# Altium footprint library MAX395.PcbLib: 3 footprints
Each footprint in its own frame and in the unit in brackets; x right, y up, seen from the top. Pads: shape width x height; smd on the part's side, far side on the other; paste and mask are expansions set on the pad; w line width, h text height; cw(c..) or ccw(c..) is an arc to the next point about the centre after c.
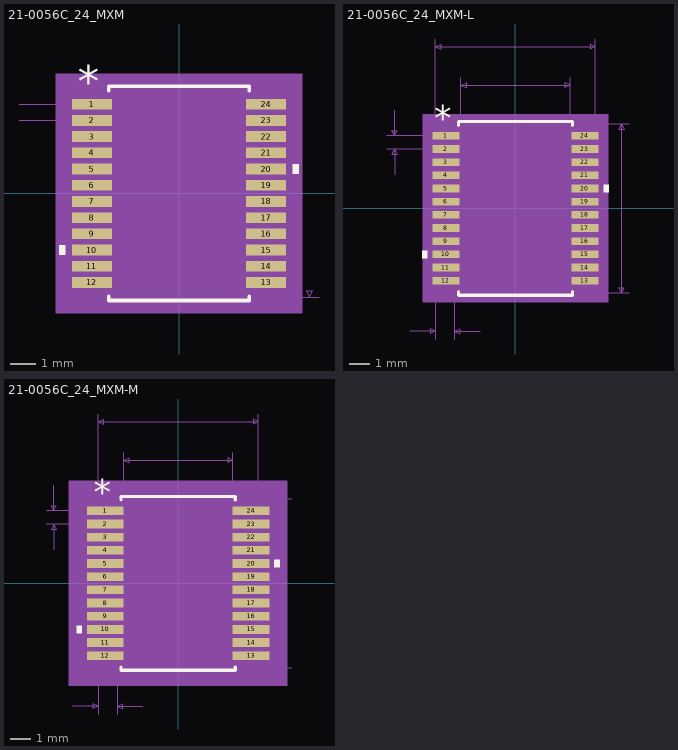
[diagram p0: the footprints below, top view; thin cyan lines are the x and y axes]

## 21-0056C_24_MXM [mm]
pads (24):
  rect 1.607x0.431 smd paste+0 mask+0: 1(-3.496,3.575) 2(-3.496,2.925) 3(-3.496,2.275) 4(-3.496,1.625) 5(-3.496,0.975) 6(-3.496,0.325) 7(-3.496,-0.325) 8(-3.496,-0.975) 9(-3.496,-1.625) 10(-3.496,-2.275) 11(-3.496,-2.925) 12(-3.496,-3.575) 13(3.496,-3.575) 14(3.496,-2.925) 15(3.496,-2.275) 16(3.496,-1.625) 17(3.496,-0.975) 18(3.496,-0.325) 19(3.496,0.325) 20(3.496,0.975) 21(3.496,1.625) 22(3.496,2.275) 23(3.496,2.925) 24(3.496,3.575)
Top Overlay:
  region: 4.554,1.165 4.808,1.165 4.808,0.784 4.554,0.784
  region: -4.554,-2.084 -4.808,-2.084 -4.808,-2.465 -4.554,-2.465
  lines w0.152: -2.819,-4.123 -2.819,-4.293 2.819,-4.293 2.819,-4.123 ; -2.819,4.123 -2.819,4.293 2.819,4.293 2.819,4.123
  text "*" at -4.068,3.879 h1.27
Mechanical 5:
  region: 4.935,-4.801 -4.935,-4.801 -4.935,4.801 4.935,4.801
Mechanical 7:
  lines w0.025: -6.417,2.925 -3.496,2.925 ; -6.417,3.575 -3.496,3.575 ; 0,-4.166 5.613,-4.166 ; 5.105,-3.912 5.359,-3.912 5.232,-4.166 5.105,-3.912
Mechanical 13:
  lines w0: -0.305,4.166 ccw(c0,4.166) 0.305,4.166
  lines w0.025: -3.95,-3.765 -2.692,-3.765 -2.692,-3.384 -3.95,-3.384 -3.95,-3.765 ; -3.95,-3.115 -2.692,-3.115 -2.692,-2.734 -3.95,-2.734 -3.95,-3.115 ; -3.95,-2.465 -2.692,-2.465 -2.692,-2.084 -3.95,-2.084 -3.95,-2.465 ; -3.95,-1.815 -2.692,-1.815 -2.692,-1.434 -3.95,-1.434 -3.95,-1.815 ; -3.95,-1.165 -2.692,-1.165 -2.692,-0.784 -3.95,-0.784 -3.95,-1.165 ; -3.95,-0.515 -2.692,-0.515 -2.692,-0.134 -3.95,-0.134 -3.95,-0.515 ; -3.95,0.135 -2.692,0.135 -2.692,0.516 -3.95,0.516 -3.95,0.135 ; -3.95,0.785 -2.692,0.785 -2.692,1.166 -3.95,1.166 -3.95,0.785 ; -3.95,1.435 -2.692,1.435 -2.692,1.816 -3.95,1.816 -3.95,1.435 ; -3.95,2.085 -2.692,2.085 -2.692,2.466 -3.95,2.466 -3.95,2.085 ; -3.95,2.735 -2.692,2.735 -2.692,3.116 -3.95,3.116 -3.95,2.735 ; -3.95,3.384 -2.692,3.384 -2.692,3.765 -3.95,3.765 -3.95,3.384 ; -2.692,-4.166 -2.692,4.166 2.692,4.166 2.692,-4.166 -2.692,-4.166 ; 2.692,-3.765 3.95,-3.765 3.95,-3.384 2.692,-3.384 2.692,-3.765 ; 2.692,-3.116 3.95,-3.116 3.95,-2.735 2.692,-2.735 2.692,-3.116 ; 2.692,-2.465 3.95,-2.465 3.95,-2.084 2.692,-2.084 2.692,-2.465 ; 2.692,-1.816 3.95,-1.816 3.95,-1.435 2.692,-1.435 2.692,-1.816 ; 2.692,-1.165 3.95,-1.165 3.95,-0.784 2.692,-0.784 2.692,-1.165 ; 2.692,-0.516 3.95,-0.516 3.95,-0.135 2.692,-0.135 2.692,-0.516 ; 2.692,0.134 3.95,0.134 3.95,0.515 2.692,0.515 2.692,0.134 ; 2.692,0.784 3.95,0.784 3.95,1.165 2.692,1.165 2.692,0.784 ; 2.692,1.434 3.95,1.434 3.95,1.815 2.692,1.815 2.692,1.434 ; 2.692,2.084 3.95,2.084 3.95,2.465 2.692,2.465 2.692,2.084 ; 2.692,2.734 3.95,2.734 3.95,3.115 2.692,3.115 2.692,2.734 ; 2.692,3.384 3.95,3.384 3.95,3.765 2.692,3.765 2.692,3.384
  text "*" at -2.629,2.819 h1.27
Mechanical 15:
  region: -2.946,-4.045 -4.554,-4.045 -4.554,4.045 -2.946,4.045 -2.946,4.42 2.946,4.42 2.946,4.045 4.554,4.045 4.554,-4.045 2.946,-4.045 2.946,-4.42 -2.946,-4.42
  lines w0.152: -4.554,-4.045 -2.946,-4.045 -2.946,-4.42 2.946,-4.42 2.946,-4.045 4.554,-4.045 4.554,4.045 2.946,4.045 2.946,4.42 -2.946,4.42 -2.946,4.045 -4.554,4.045 -4.554,-4.045
3D body: height 0.25, standoff 0, extent 0,0 0.254,0.254

## 21-0056C_24_MXM-L [mm]
pads (24):
  rect 1.34x0.381 smd paste+0 mask+0: 1(-3.43,3.575) 2(-3.43,2.925) 3(-3.43,2.275) 4(-3.43,1.625) 5(-3.43,0.975) 6(-3.43,0.325) 7(-3.43,-0.325) 8(-3.43,-0.975) 9(-3.43,-1.625) 10(-3.43,-2.275) 11(-3.43,-2.925) 12(-3.43,-3.575) 13(3.43,-3.575) 14(3.43,-2.925) 15(3.43,-2.275) 16(3.43,-1.625) 17(3.43,-0.975) 18(3.43,-0.325) 19(3.43,0.325) 20(3.43,0.975) 21(3.43,1.625) 22(3.43,2.275) 23(3.43,2.925) 24(3.43,3.575)
Top Overlay:
  region: -4.354,-2.084 -4.608,-2.084 -4.608,-2.465 -4.354,-2.465
  region: 4.354,1.165 4.608,1.165 4.608,0.784 4.354,0.784
  lines w0.152: -2.819,-4.098 -2.819,-4.293 2.819,-4.293 2.819,-4.098 ; -2.819,4.098 -2.819,4.293 2.819,4.293 2.819,4.098
  text "*" at -4.001,3.829 h1.27
Mechanical 5:
  region: 4.582,-4.648 -4.582,-4.648 -4.582,4.648 4.582,4.648
Mechanical 7:
  lines w0.025: -6.351,2.925 -3.43,2.925 ; -6.351,3.575 -3.43,3.575 ; -5.97,1.655 -5.97,2.925 ; -5.97,4.845 -5.97,3.575 ; -5.22,-6.071 -3.95,-6.071 ; -3.95,-6.452 -3.95,0 -3.95,8.357 ; -3.01,-6.452 -3.01,0 ; -2.692,0 -2.692,6.452 ; -1.74,-6.071 -3.01,-6.071 ; 0,-4.166 5.613,-4.166 ; 0,4.166 5.613,4.166 ; 2.692,0 2.692,6.452 ; 3.95,0 3.95,8.357 ; -5.97,2.925 -6.097,2.671 -5.843,2.671 -5.97,2.925 ; -5.97,3.575 -6.097,3.829 -5.843,3.829 -5.97,3.575 ; -3.95,-6.071 -4.204,-5.944 -4.204,-6.198 -3.95,-6.071 ; -3.95,7.976 3.95,7.976 ; -3.95,7.976 -3.696,8.103 -3.696,7.849 -3.95,7.976 ; -3.01,-6.071 -2.756,-5.944 -2.756,-6.198 -3.01,-6.071 ; -2.692,6.071 2.692,6.071 ; -2.692,6.071 -2.438,6.198 -2.438,5.944 -2.692,6.071 ; 2.692,6.071 2.438,6.198 2.438,5.944 2.692,6.071 ; 3.95,7.976 3.696,8.103 3.696,7.849 3.95,7.976 ; 5.232,-4.166 5.232,4.166 ; 5.232,-4.166 5.105,-3.912 5.359,-3.912 5.232,-4.166 ; 5.232,4.166 5.105,3.912 5.359,3.912 5.232,4.166
  text "Default Padstyle: r134_38" at -7.938,-9.246 h1.27
  text "Pin One Padstyle: r134_38" at -7.938,-10.77 h1.27
  text "Alt 1 Padstyle: b152_229h76" at -8.572,-15.342 h1.27
  text "Alt 2 Padstyle: b229_152h76" at -8.572,-16.866 h1.27
  text "0.212in/5.385mm" at -2.381,6.579 h0.64
  text "0.311in/7.899mm" at -2.381,8.484 h0.64
  text "0.328in/8.331mm" at 5.74,-0.318 h0.64
  text "0.026in/0.65mm" at -10.923,2.933 h0.64
  text "0.037in/0.94mm" at -5.702,-7.214 h0.64
Mechanical 13:
  lines w0: -0.305,4.166 ccw(c0,4.166) 0.305,4.166
  lines w0.025: -3.95,-3.765 -3.95,-3.384 -2.692,-3.384 -2.692,-3.765 -3.95,-3.765 ; -3.95,-3.115 -3.95,-2.734 -2.692,-2.734 -2.692,-3.115 -3.95,-3.115 ; -3.95,-2.465 -3.95,-2.084 -2.692,-2.084 -2.692,-2.465 -3.95,-2.465 ; -3.95,-1.815 -3.95,-1.434 -2.692,-1.434 -2.692,-1.815 -3.95,-1.815 ; -3.95,-1.165 -3.95,-0.784 -2.692,-0.784 -2.692,-1.165 -3.95,-1.165 ; -3.95,-0.515 -3.95,-0.134 -2.692,-0.134 -2.692,-0.515 -3.95,-0.515 ; -3.95,0.135 -3.95,0.516 -2.692,0.516 -2.692,0.135 -3.95,0.135 ; -3.95,0.785 -3.95,1.166 -2.692,1.166 -2.692,0.785 -3.95,0.785 ; -3.95,1.435 -3.95,1.816 -2.692,1.816 -2.692,1.435 -3.95,1.435 ; -3.95,2.085 -3.95,2.466 -2.692,2.466 -2.692,2.085 -3.95,2.085 ; -3.95,2.735 -3.95,3.116 -2.692,3.116 -2.692,2.735 -3.95,2.735 ; -3.95,3.384 -3.95,3.765 -2.692,3.765 -2.692,3.384 -3.95,3.384 ; -2.692,-4.166 2.692,-4.166 2.692,4.166 -2.692,4.166 -2.692,-4.166 ; 2.692,-3.765 2.692,-3.384 3.95,-3.384 3.95,-3.765 2.692,-3.765 ; 2.692,-3.116 2.692,-2.735 3.95,-2.735 3.95,-3.116 2.692,-3.116 ; 2.692,-2.465 2.692,-2.084 3.95,-2.084 3.95,-2.465 2.692,-2.465 ; 2.692,-1.816 2.692,-1.435 3.95,-1.435 3.95,-1.816 2.692,-1.816 ; 2.692,-1.165 2.692,-0.784 3.95,-0.784 3.95,-1.165 2.692,-1.165 ; 2.692,-0.516 2.692,-0.135 3.95,-0.135 3.95,-0.516 2.692,-0.516 ; 2.692,0.134 2.692,0.515 3.95,0.515 3.95,0.134 2.692,0.134 ; 2.692,0.784 2.692,1.165 3.95,1.165 3.95,0.784 2.692,0.784 ; 2.692,1.434 2.692,1.815 3.95,1.815 3.95,1.434 2.692,1.434 ; 2.692,2.084 2.692,2.465 3.95,2.465 3.95,2.084 2.692,2.084 ; 2.692,2.734 2.692,3.115 3.95,3.115 3.95,2.734 2.692,2.734 ; 2.692,3.384 2.692,3.765 3.95,3.765 3.95,3.384 2.692,3.384
  text "*" at -2.629,2.819 h1.27
Mechanical 15:
  region: -2.794,-3.867 -4.201,-3.867 -4.201,3.867 -2.794,3.867 -2.794,4.267 2.794,4.267 2.794,3.867 4.201,3.867 4.201,-3.867 2.794,-3.867 2.794,-4.267 -2.794,-4.267
  lines w0.152: -4.201,-3.867 -4.201,3.867 -2.794,3.867 -2.794,4.267 2.794,4.267 2.794,3.867 4.201,3.867 4.201,-3.867 2.794,-3.867 2.794,-4.267 -2.794,-4.267 -2.794,-3.867 -4.201,-3.867
3D body: height 0.25, standoff 0, extent 0,0 0.254,0.254

## 21-0056C_24_MXM-M [mm]
pads (24):
  rect 1.807x0.431 smd paste+0 mask+0: 1(-3.596,3.575) 2(-3.596,2.925) 3(-3.596,2.275) 4(-3.596,1.625) 5(-3.596,0.975) 6(-3.596,0.325) 7(-3.596,-0.325) 8(-3.596,-0.975) 9(-3.596,-1.625) 10(-3.596,-2.275) 11(-3.596,-2.925) 12(-3.596,-3.575) 13(3.596,-3.575) 14(3.596,-2.925) 15(3.596,-2.275) 16(3.596,-1.625) 17(3.596,-0.975) 18(3.596,-0.325) 19(3.596,0.325) 20(3.596,0.975) 21(3.596,1.625) 22(3.596,2.275) 23(3.596,2.925) 24(3.596,3.575)
Top Overlay:
  region: -4.754,-2.084 -5.008,-2.084 -5.008,-2.465 -4.754,-2.465
  region: 4.754,1.165 5.008,1.165 5.008,0.784 4.754,0.784
  lines w0.152: -2.819,-4.123 -2.819,-4.293 2.819,-4.293 2.819,-4.123 ; -2.819,4.123 -2.819,4.293 2.819,4.293 2.819,4.123
  text "*" at -4.168,3.879 h1.27
Mechanical 5:
  region: 5.389,-5.055 -5.389,-5.055 -5.389,5.055 5.389,5.055
Mechanical 7:
  lines w0.025: -6.517,2.925 -3.596,2.925 ; -6.517,3.575 -3.596,3.575 ; -6.136,1.655 -6.136,2.925 ; -6.136,4.845 -6.136,3.575 ; -5.22,-6.071 -3.95,-6.071 ; -3.95,-6.452 -3.95,0 -3.95,8.357 ; -3.01,-6.452 -3.01,0 ; -2.692,0 -2.692,6.452 ; -1.74,-6.071 -3.01,-6.071 ; 0,-4.166 5.613,-4.166 ; 0,4.166 5.613,4.166 ; 2.692,0 2.692,6.452 ; 3.95,0 3.95,8.357 ; -6.136,2.925 -6.263,2.671 -6.009,2.671 -6.136,2.925 ; -6.136,3.575 -6.263,3.829 -6.009,3.829 -6.136,3.575 ; -3.95,-6.071 -4.204,-5.944 -4.204,-6.198 -3.95,-6.071 ; -3.95,7.976 3.95,7.976 ; -3.95,7.976 -3.696,8.103 -3.696,7.849 -3.95,7.976 ; -3.01,-6.071 -2.756,-5.944 -2.756,-6.198 -3.01,-6.071 ; -2.692,6.071 2.692,6.071 ; -2.692,6.071 -2.438,6.198 -2.438,5.944 -2.692,6.071 ; 2.692,6.071 2.438,6.198 2.438,5.944 2.692,6.071 ; 3.95,7.976 3.696,8.103 3.696,7.849 3.95,7.976 ; 5.232,-4.166 5.232,4.166 ; 5.232,-4.166 5.105,-3.912 5.359,-3.912 5.232,-4.166 ; 5.232,4.166 5.105,3.912 5.359,3.912 5.232,4.166
  text "Default Padstyle: r181_43" at -7.938,-9.246 h1.27
  text "Pin One Padstyle: r181_43" at -7.938,-10.77 h1.27
  text "Alt 1 Padstyle: b152_229h76" at -8.572,-15.342 h1.27
  text "Alt 2 Padstyle: b229_152h76" at -8.572,-16.866 h1.27
  text "0.212in/5.385mm" at -2.381,6.579 h0.64
  text "0.311in/7.899mm" at -2.381,8.484 h0.64
  text "0.328in/8.331mm" at 5.74,-0.318 h0.64
  text "0.026in/0.65mm" at -11.089,2.933 h0.64
  text "0.037in/0.94mm" at -5.702,-7.214 h0.64
Mechanical 13:
  lines w0: -0.305,4.166 ccw(c0,4.166) 0.305,4.166
  lines w0.025: -3.95,-3.765 -3.95,-3.384 -2.692,-3.384 -2.692,-3.765 -3.95,-3.765 ; -3.95,-3.115 -3.95,-2.734 -2.692,-2.734 -2.692,-3.115 -3.95,-3.115 ; -3.95,-2.465 -3.95,-2.084 -2.692,-2.084 -2.692,-2.465 -3.95,-2.465 ; -3.95,-1.815 -3.95,-1.434 -2.692,-1.434 -2.692,-1.815 -3.95,-1.815 ; -3.95,-1.165 -3.95,-0.784 -2.692,-0.784 -2.692,-1.165 -3.95,-1.165 ; -3.95,-0.515 -3.95,-0.134 -2.692,-0.134 -2.692,-0.515 -3.95,-0.515 ; -3.95,0.135 -3.95,0.516 -2.692,0.516 -2.692,0.135 -3.95,0.135 ; -3.95,0.785 -3.95,1.166 -2.692,1.166 -2.692,0.785 -3.95,0.785 ; -3.95,1.435 -3.95,1.816 -2.692,1.816 -2.692,1.435 -3.95,1.435 ; -3.95,2.085 -3.95,2.466 -2.692,2.466 -2.692,2.085 -3.95,2.085 ; -3.95,2.735 -3.95,3.116 -2.692,3.116 -2.692,2.735 -3.95,2.735 ; -3.95,3.384 -3.95,3.765 -2.692,3.765 -2.692,3.384 -3.95,3.384 ; -2.692,-4.166 2.692,-4.166 2.692,4.166 -2.692,4.166 -2.692,-4.166 ; 2.692,-3.765 2.692,-3.384 3.95,-3.384 3.95,-3.765 2.692,-3.765 ; 2.692,-3.116 2.692,-2.735 3.95,-2.735 3.95,-3.116 2.692,-3.116 ; 2.692,-2.465 2.692,-2.084 3.95,-2.084 3.95,-2.465 2.692,-2.465 ; 2.692,-1.816 2.692,-1.435 3.95,-1.435 3.95,-1.816 2.692,-1.816 ; 2.692,-1.165 2.692,-0.784 3.95,-0.784 3.95,-1.165 2.692,-1.165 ; 2.692,-0.516 2.692,-0.135 3.95,-0.135 3.95,-0.516 2.692,-0.516 ; 2.692,0.134 2.692,0.515 3.95,0.515 3.95,0.134 2.692,0.134 ; 2.692,0.784 2.692,1.165 3.95,1.165 3.95,0.784 2.692,0.784 ; 2.692,1.434 2.692,1.815 3.95,1.815 3.95,1.434 2.692,1.434 ; 2.692,2.084 2.692,2.465 3.95,2.465 3.95,2.084 2.692,2.084 ; 2.692,2.734 2.692,3.115 3.95,3.115 3.95,2.734 2.692,2.734 ; 2.692,3.384 2.692,3.765 3.95,3.765 3.95,3.384 2.692,3.384
  text "*" at -2.629,2.819 h1.27
Mechanical 15:
  region: -3.2,-4.299 -5.008,-4.299 -5.008,4.299 -3.2,4.299 -3.2,4.674 3.2,4.674 3.2,4.299 5.008,4.299 5.008,-4.299 3.2,-4.299 3.2,-4.674 -3.2,-4.674
  lines w0.152: -5.008,-4.299 -5.008,4.299 -3.2,4.299 -3.2,4.674 3.2,4.674 3.2,4.299 5.008,4.299 5.008,-4.299 3.2,-4.299 3.2,-4.674 -3.2,-4.674 -3.2,-4.299 -5.008,-4.299
3D body: height 0.25, standoff 0, extent 0,0 0.254,0.254